# Altium schematic symbol library PCI.SchLib: 1 symbol
Pins are listed as number, name and electrical type; pins without a type are passive.

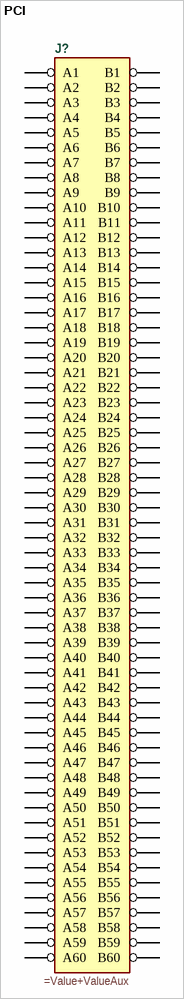
[diagram p0: symbol PCI]

## PCI
designator J?
=Description
pins: 1 A1, 2 B1, 3 A2, 4 B2, 5 A3, 6 B3, 7 A4, 8 B4, 9 A5, 10 B5, 11 A6, 12 B6, 13 A7, 14 B7, 15 A8, 16 B8, 17 A9, 18 B9, 19 A10, 20 B10, 21 A11, 22 B11, 23 A12, 24 B12, 25 A13, 26 B13, 27 A14, 28 B14, 29 A15, 30 B15, 31 A16, 32 B16, 33 A17, 34 B17, 35 A18, 36 B18, 37 A19, 38 B19, 39 A20, 40 B20, 41 A21, 42 B21, 43 A22, 44 B22, 45 A23, 46 B23, 47 A24, 48 B24, 49 A25, 50 B25, 51 A26, 52 B26, 53 A27, 54 B27, 55 A28, 56 B28, 57 A29, 58 B29, 59 A30, 60 B30, 61 A31, 62 B31, 63 A32, 64 B32, 65 A33, 66 B33, 67 A34, 68 B34, 69 A35, 70 B35, 71 A36, 72 B36, 73 A37, 74 B37, 75 A38, 76 B38, 77 A39, 78 B39, 79 A40, 80 B40, 81 A41, 82 B41, 83 A42, 84 B42, 85 A43, 86 B43, 87 A44, 88 B44, 89 A45, 90 B45, 91 A46, 92 B46, 93 A47, 94 B47, 95 A48, 96 B48, 97 A49, 98 B49, 99 A50, 100 B50, 101 A51, 102 B51, 103 A52, 104 B52, 105 A53, 106 B53, 107 A54, 108 B54, 109 A55, 110 B55, 111 A56, 112 B56, 113 A57, 114 B57, 115 A58, 116 B58, 117 A59, 118 B59, 119 A60, 120 B60